# Altium integrated library 68pF_Cap_C1206C680J5GACTU.IntLib: 1 symbol
Pins are listed as number, name and electrical type; pins without a type are passive.

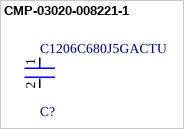
[diagram p0: symbol CMP-03020-008221-1]

## CMP-03020-008221-1
designator C?, comment C1206C680J5GACTU
1206 C 68pF Ceramic Multilayer Capacitor; 50 VDC; +125degC; C0G Dielec; +/-5%; Manufacturer: KEMET; Tolerance: 0.05; Temperature Coefficient: 15%; Voltage Rating: 50 V; Automotive Grade: Grade 0; Temperature Range High: +150°C; Octopart: https://octopart.com/c1206c680j5gactu-kemet-138975; ComponentLink2Description: Datasheet; ComponentLink2URL: https://content.kemet.com/datasheets/KEM_C1007_X8R_ULTRA_150C_SMD.pdf; Lead Free: Yes; Height: 0.88mm; Category: Cap; Temperature Range Low: -55°C; Temperature Characteristic: C0G; Manufacturer Part Number: C1206C680J5GACTU; Device Class L2: Capacitors; Automotive: Yes; Device Class L1: Passive Components; Digikey Description: 1206 C 68pF Ceramic Multilayer Capacitor; 50 VDC; +125degC; C0G Dielec; +/-5%; RoHS: TRUE; Temperature: -55°C to +150°C; Capacitance: 68 pF; Material: Ceramic; Value: 68 pF; Package: C1206C-EB; Ipc Land Pattern Name: CAPC320160X78; Mouser Description: 1206 C 68pF Ceramic Multilayer Capacitor; 50 VDC; +125degC; C0G Dielec; +/-5%; Device Class L3: Ceramic Capacitors
footprint FP-C1206C-EB-MFG
footprint FP-C1206C-EB-IPC_C
footprint FP-C1206C-EB-IPC_A
footprint FP-C1206C-EB-IPC_B
pins: 1, 2